# EAGLE library part 1X10 (library headers.edge(.1in))
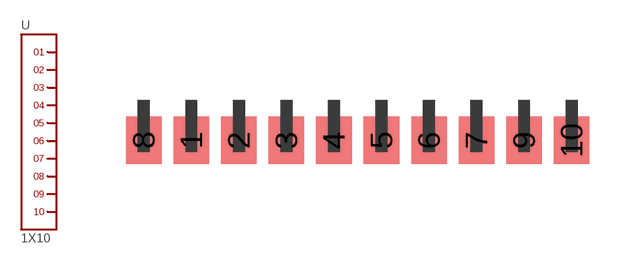
[diagram p4: symbol with the pads of 1X10; footprint 1X10]

Designator prefix -

## 1X10  [1X10]
1  1
2  2
3  3
4  4
5  5
6  6
7  7
8  8
9  9
10  10

## Footprint 1X10 (pad centres in mm)
smd 1.905 x 2.54: 1 2.54,-2.159; 2 5.08,-2.159; 3 7.62,-2.159; 4 10.16,-2.159; 5 12.7,-2.159; 6 15.24,-2.159; 7 17.78,-2.159; 8 0,-2.159; 9 20.32,-2.159; 10 22.86,-2.159